# Altium schematic symbol library SCH - ARM CORTEX - SI LABS EFM32BG22C112.SCHLIB: 1 symbol
Pins are listed as number, name and electrical type; pins without a type are passive.

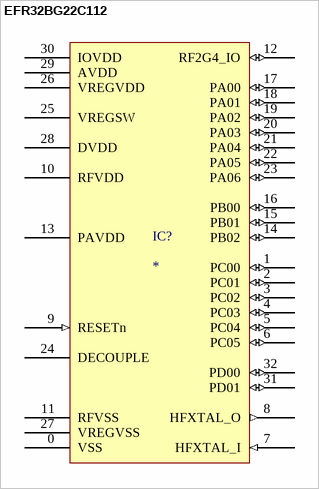
[diagram p0: symbol EFR32BG22C112]

## EFR32BG22C112
designator IC?
pins: 0 VSS (power), 1 PC00 (io), 2 PC01 (io), 3 PC02 (io), 4 PC03 (io), 5 PC04 (io), 6 PC05 (io), 7 HFXTAL_I (in), 8 HFXTAL_O (out), 9 RESETn (in), 10 RFVDD (power), 11 RFVSS (power), 12 RF2G4_IO (io), 13 PAVDD (power), 14 PB02 (io), 15 PB01 (io), 16 PB00 (io), 17 PA00 (io), 18 PA01 (io), 19 PA02 (io), 20 PA03 (io), 21 PA04 (io), 22 PA05 (io), 23 PA06 (io), 24 DECOUPLE (power), 25 VREGSW (power), 26 VREGVDD (power), 27 VREGVSS (power), 28 DVDD (power), 29 AVDD (power), 30 IOVDD (power), 31 PD01 (io), 32 PD00 (io)